# EAGLE library part TMUX154E (library ICs)
TMUX154E
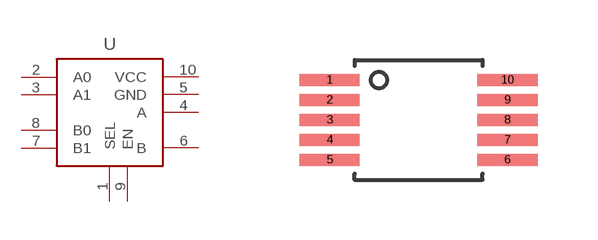
[diagram p14: symbol with the pads of VSSOP10; footprint VSSOP10]

Designator prefix -

## TMUX154E  [VSSOP10]
1  SEL
2  A0
3  A1
4  A
5  GND  sup
6  B
7  B1
8  B0
9  EN  in
10  VCC  pwr

## Footprint VSSOP10 (pad centres in mm)
VSSOP 10-pin Package
smd 1.5 x 0.3: 1 -2.225,1; 2 -2.225,0.5; 3 -2.225,0; 4 -2.225,-0.5; 5 -2.225,-1; 6 2.225,-1; 7 2.225,-0.5; 8 2.225,0; 9 2.225,0.5; 10 2.225,1